# EAGLE library part CON-RJ45-J0011D21B (library MainBoard)
RJ45 J0011D21B PulseJack RJ-45 connector with 13.8mm height profile. Source: http://ww2.pulseeng.com/products/datasheets/J403.pdf
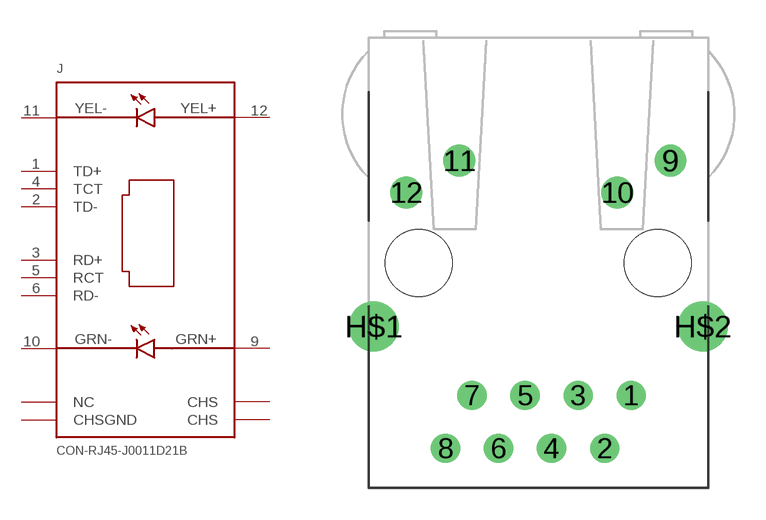
[diagram p17: symbol with the pads of J0011D21B; footprint J0011D21B]

Designator prefix J

## CON-RJ45-J0011D21BNL  [J0011D21B]
1  TD+  in
2  TD-  in
3  RD+  out
4  TCT  in
5  RCT  out
6  RD-  out
7  NC  nc
8  CHSGND  nc
9  GRN+  pas
10  GRN-  pas
11  YEL-  pas
12  YEL+  pas
H$1  CHS  nc
H$2  CHS  nc

## Footprint J0011D21B (pad centres in mm)
PulseJack J0011D21BNL RJ-45 Connector 10/100 Base-TX RJ45 1x1 Tab-DOWN with LEDs 8-pin (J0 series) integrated magnetics connector (ICM), designed to support applications, such as SOHO (ADSL modems), LAN-on-Motherboard (LOM), Hub and Switches. Height: 13.84 mm Source: http://ww2.pulseeng.com/products/datasheets/J403.pdf
drill 0.889: 1 4.445,-6.35; 2 3.175,-8.89; 3 1.905,-6.35; 4 0.635,-8.89; 5 -0.635,-6.35; 6 -1.905,-8.89; 7 -3.175,-6.35; 8 -4.445,-8.89
drill 1.016: 9 6.325,4.902; 10 3.785,3.378; 11 -3.785,4.902; 12 -6.325,3.378
drill 1.6: H$1 -7.874,-3.048; H$2 7.874,-3.048
hole 3.2 at -5.715,0
hole 3.2 at 5.715,0